# Altium footprint library ESP32-30PINa.PcbLib: 1 footprints
Each footprint in its own frame and in the unit in brackets; x right, y up, seen from the top. Pads: shape width x height; smd on the part's side, far side on the other; paste and mask are expansions set on the pad; w line width, h text height; cw(c..) or ccw(c..) is an arc to the next point about the centre after c.
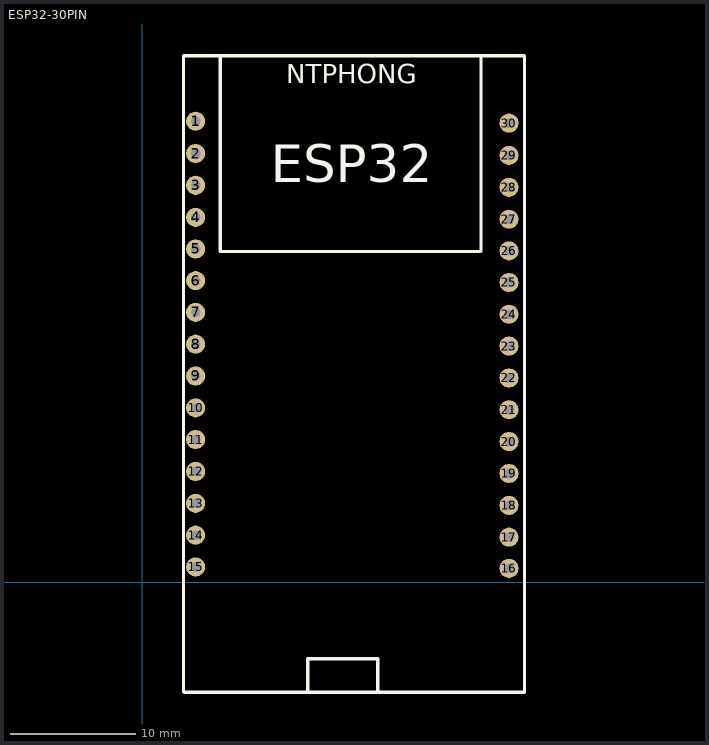
[diagram p0: the footprint, top view; thin cyan lines are the x and y axes]

## ESP32-30PIN [mil] "ESP32-30PIN"
pads (30):
  round 60 hole 30: 1(167.32,1449.8) 2(167.32,1348.43) 3(167.32,1248.5) 4(167.32,1147.64) 5(167.32,1048.23) 6(167.32,948.82) 7(167.32,848.9) 8(167.32,749.02) 9(167.32,649.09) 10(167.32,548.7) 11(167.32,449.29) 12(167.32,348.9) 13(167.32,248.5) 14(167.32,148.62) 15(167.32,48.7) 16(1152.56,44.29) 17(1152.56,142.2) 18(1152.56,242.13) 19(1152.56,342.52) 20(1152.56,442.91) 21(1152.56,542.8) 22(1152.56,642.72) 23(1152.56,743.11) 24(1152.56,842.99) 25(1152.56,942.91) 26(1152.56,1042.32) 27(1152.56,1141.73) 28(1152.56,1242.13) 29(1152.56,1342.52) 30(1152.56,1443.9)
Top Overlay:
  lines w10: 245,1653.54 245,1040 1065,1040 1065,1651.57 ; 520,-345 520,-240 740,-240 740,-345 ; 128.94,-342.52 131.42,-345 1201.77,-345 1201.77,1655.51 128.94,1655.51 128.94,-342.52
  text "ESP32" at 403.54,1257.87 h118.11
  text "NTPHONG" at 452.76,1568.9 h60
3D body "ESP32Wroom4.STEP": height 316.99, standoff -194.82, extent 159.45,-320.79 1159.45,1610.16